# EAGLE library part ESP-12E (library ESPStack-mini)
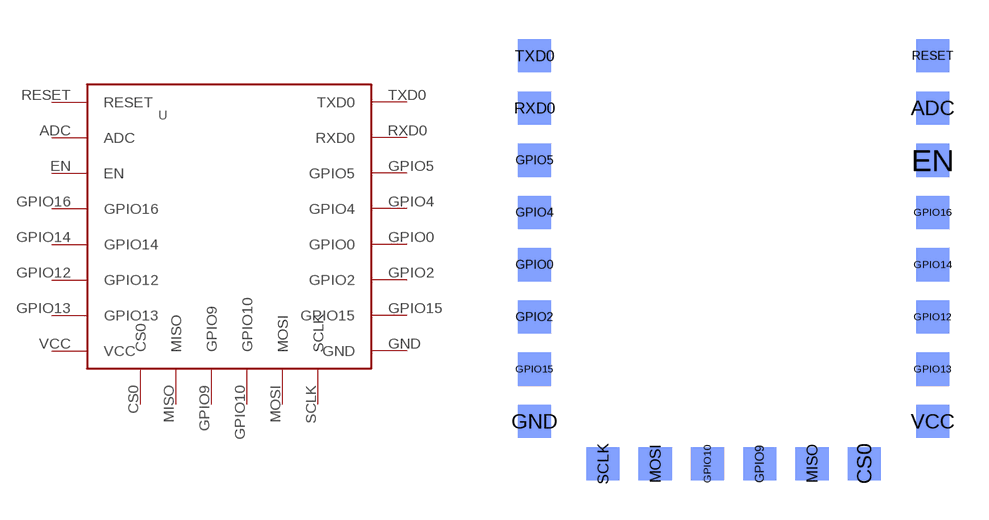
[diagram p0: symbol with the pads of ESP-12E; footprint ESP-12E]

Designator prefix U

## ESP-12E  [ESP-12E]
ADC  ADC
CS0  CS0
EN  EN
GND  GND  pwr
GPIO0  GPIO0
GPIO2  GPIO2
GPIO4  GPIO4
GPIO5  GPIO5
GPIO9  GPIO9
GPIO10  GPIO10
GPIO12  GPIO12
GPIO13  GPIO13
GPIO14  GPIO14
GPIO15  GPIO15
GPIO16  GPIO16
MISO  MISO
MOSI  MOSI
RESET  RESET
RXD0  RXD0
SCLK  SCLK
TXD0  TXD0
VCC  VCC  pwr

## Footprint ESP-12E (pad centres in mm)
smd 1.27 x 1.27 bottom: ADC 15.621,14; CS0 13.002,0.381; EN 15.621,12; GND 0.383,2; GPIO0 0.383,8; GPIO2 0.383,6; GPIO4 0.383,10; GPIO5 0.383,12; GPIO9 9.002,0.381; GPIO10 7.002,0.381; GPIO12 15.621,6; GPIO13 15.621,4; GPIO14 15.621,8; GPIO15 0.383,4; GPIO16 15.621,10; MISO 11.002,0.381; MOSI 5.002,0.381; RESET 15.621,16; RXD0 0.383,14; SCLK 3.002,0.381; TXD0 0.383,16; VCC 15.621,2